# EAGLE library part DS3231-SO (library BaseApp)
Digikey No :- DS3231MZ/V+-ND
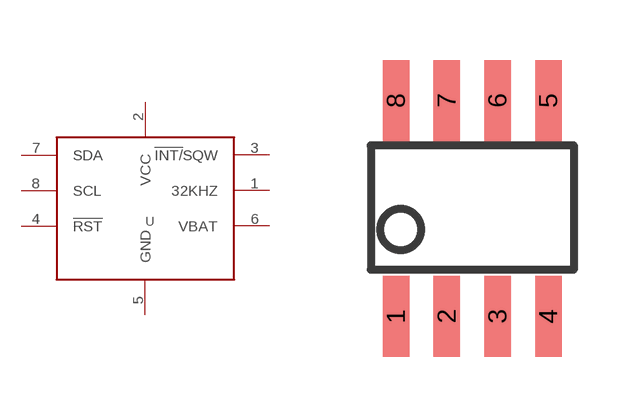
[diagram p146: symbol with the pads of SOIC-8; footprint SOIC-8]

Designator prefix U

## DS3231-SO (DIGIKEY: DS3231MZ/V+-ND; PRICE_PER_UNIT: 6.46)  [SOIC-8]
1  32KHZ
2  VCC
3  !INT/!SQW
4  !RST
5  GND
6  VBAT
7  SDA
8  SCL

## Footprint SOIC-8 (pad centres in mm)
smd 0.66 x 2.032: 1 -1.905,-2.7; 2 -0.635,-2.7; 3 0.635,-2.7; 4 1.905,-2.7; 5 1.905,2.7; 6 0.635,2.7; 7 -0.635,2.7; 8 -1.905,2.7